# EAGLE library part FS8205 (library Semiconductors > Discrete Semiconductors > Transistors > MOSFETs)
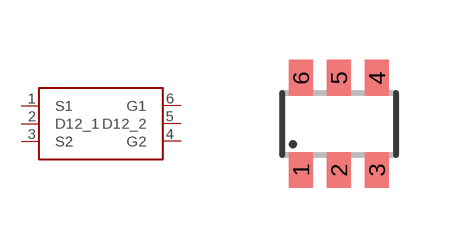
[diagram p1: symbol with the pads of SOT23-6; footprint SOT23-6]

Designator prefix -

## FS8205  [SOT23-6]
1  S1
2  D12_1
3  S2
4  G2
5  D12_2
6  G1

## Footprint SOT23-6 (pad centres in mm)
Small Outline Transistor 6 lead
smd 0.6 x 0.9: 1 -0.95,-1.15; 2 0,-1.15; 3 0.95,-1.15; 4 0.95,1.15; 5 0,1.15; 6 -0.95,1.15